# Altium schematic symbol library LD1117S33TR.SchLib: 1 symbol
Pins are listed as number, name and electrical type; pins without a type are passive.

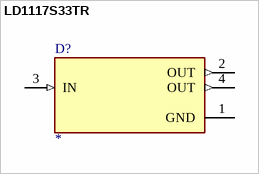
[diagram p0: symbol LD1117S33TR]

## LD1117S33TR
designator D?
Linear Voltage Regulator IC Positive Fixed 1 Output 800mA SOT-223; MP: LD1117S33TR; MF: STMicroelectronics; Value: *; SnapEDA_Link: https://www.snapeda.com/parts/LD1117S33TR/STMicroelectronics/view-part/?ref=snap; Purchase-URL: https://pricing.snapeda.com/search/part/LD1117S33TR/?ref=eda; Check_prices: https://www.snapeda.com/parts/LD1117S33TR/STMicroelectronics/view-part/?ref=eda; Availability: In Stock; Price: None; Package: TO-261-4 STMicroelectronics
footprint SOT230P700X180-4N
pins: 1 GND (power), 2 OUT (out), 3 IN (in), 4 OUT (out)